# Altium footprint library CAP-1812.PcbLib: 1 footprints
Each footprint in its own frame and in the unit in brackets; x right, y up, seen from the top. Pads: shape width x height; smd on the part's side, far side on the other; paste and mask are expansions set on the pad; w line width, h text height; cw(c..) or ccw(c..) is an arc to the next point about the centre after c.
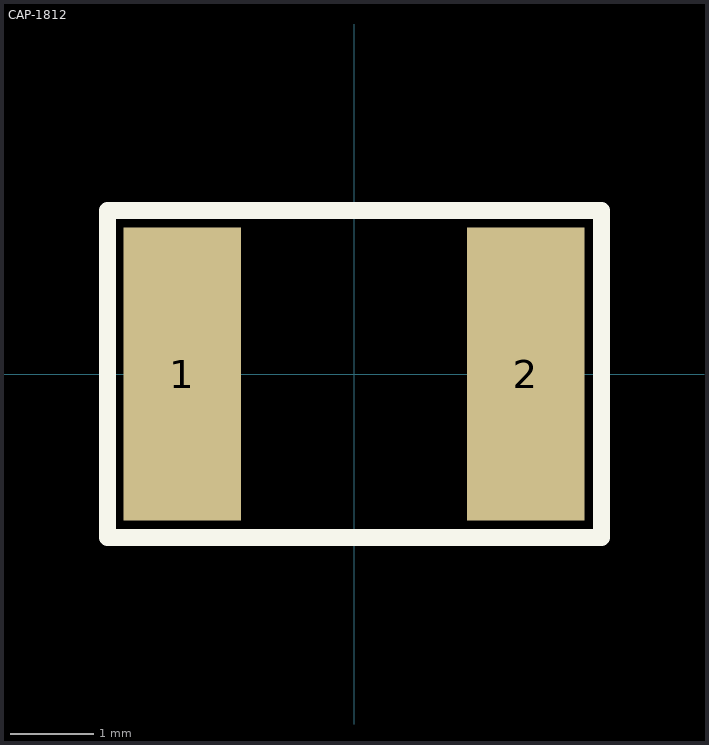
[diagram p0: the footprint, top view; thin cyan lines are the x and y axes]

## CAP-1812 [mm]
height 1.8
pads (2):
  rect 1.4x3.5 smd: 1(-2.05,0) 2(2.05,0)
Top Overlay:
  lines w0.2: -2.945,-1.952 2.955,-1.952 2.955,1.953 -2.945,1.953 -2.945,-1.952
Top Assembly:
  lines w0.1: -2.945,-1.952 2.955,-1.952 2.955,1.953 -2.945,1.953 -2.945,-1.952
Top Courtyard:
  lines w0.1: -2.945,-1.952 -2.945,1.953 2.955,1.953 2.955,-1.952 -2.945,-1.952
Top Designator:
  text ".Designator" at -7.618,-0.508 h1.52
3D body "CAP 1812-1.35mm.STEP": height 1.35, standoff 0, extent -2.25,-1.6 2.25,1.6